# EAGLE library part WEMOS_LOLIN32 (library modules)
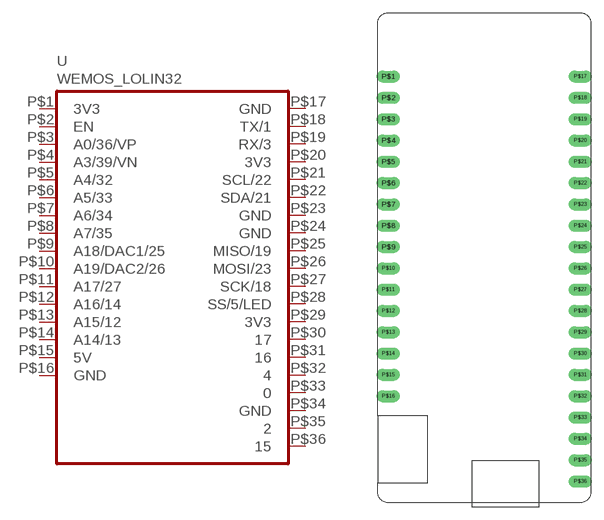
[diagram p0: symbol with the pads of WEMOS_LOLIN32; footprint WEMOS_LOLIN32]

Designator prefix -

## WEMOS_LOLIN32  [WEMOS_LOLIN32]
P$1  3V3
P$2  EN
P$3  A0/36/VP
P$4  A3/39/VN
P$5  A4/32
P$6  A5/33
P$7  A6/34
P$8  A7/35
P$9  A18/DAC1/25
P$10  A19/DAC2/26
P$11  A17/27
P$12  A16/14
P$13  A15/12
P$14  A14/13
P$15  5V
P$16  GND
P$17  GND
P$18  TX/1
P$19  RX/3
P$20  3V3
P$21  SCL/22
P$22  SDA/21
P$23  GND
P$24  GND
P$25  MISO/19
P$26  MOSI/23
P$27  SCK/18
P$28  SS/5/LED
P$29  3V3
P$30  17
P$31  16
P$32  4
P$33  0
P$34  GND
P$35  2
P$36  15

## Footprint WEMOS_LOLIN32 (pad centres in mm)
drill 0.9 long: P$1 -12.7,19.05; P$2 -12.7,16.51; P$3 -12.7,13.97; P$4 -12.7,11.43; P$5 -12.7,8.89; P$6 -12.7,6.35; P$7 -12.7,3.81; P$8 -12.7,1.27; P$9 -12.7,-1.27; P$10 -12.7,-3.81; P$11 -12.7,-6.35; P$12 -12.7,-8.89; P$13 -12.7,-11.43; P$14 -12.7,-13.97; P$15 -12.7,-16.51; P$16 -12.7,-19.05; P$17 10.16,19.05; P$18 10.16,16.51; P$19 10.16,13.97; P$20 10.16,11.43; P$21 10.16,8.89; P$22 10.16,6.35; P$23 10.16,3.81; P$24 10.16,1.27; P$25 10.16,-1.27; P$26 10.16,-3.81; P$27 10.16,-6.35; P$28 10.16,-8.89; P$29 10.16,-11.43; P$30 10.16,-13.97; P$31 10.16,-16.51; P$32 10.16,-19.05; P$33 10.16,-21.59; P$34 10.16,-24.13; P$35 10.16,-26.67; P$36 10.16,-29.21